# Altium schematic symbol library CAP_POLARIZED.Schlib: 1 symbol
Pins are listed as number, name and electrical type; pins without a type are passive.

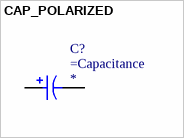
[diagram p0: symbol CAP_POLARIZED]

## CAP_POLARIZED
designator C?
CAP_POLARIZED; Voltage Rating: *
pins: 1, 2